# Altium schematic symbol library CONN D-SUB25_Vertical.SchLib: 1 symbol
Pins are listed as number, name and electrical type; pins without a type are passive.

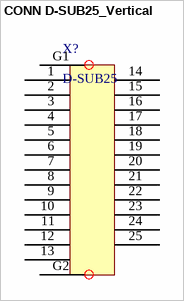
[diagram p0: symbol CONN D-SUB25_Vertical]

## CONN D-SUB25_Vertical
designator X?, comment D-SUB25
25 Pin DSUB Connector
footprint CONN Vertical_D-SUB25 (25 Pin DB Connector)
pins: 1, 2, 3, 4, 5, 6, 7, 8, 9, 10, 11, 12, 13, 14, 15, 16, 17, 18, 19, 20, 21, 22, 23, 24, 25, G1, G2